# Altium integrated library Lattice FPGA EC.IntLib: 200 symbols (part 12 of 40)
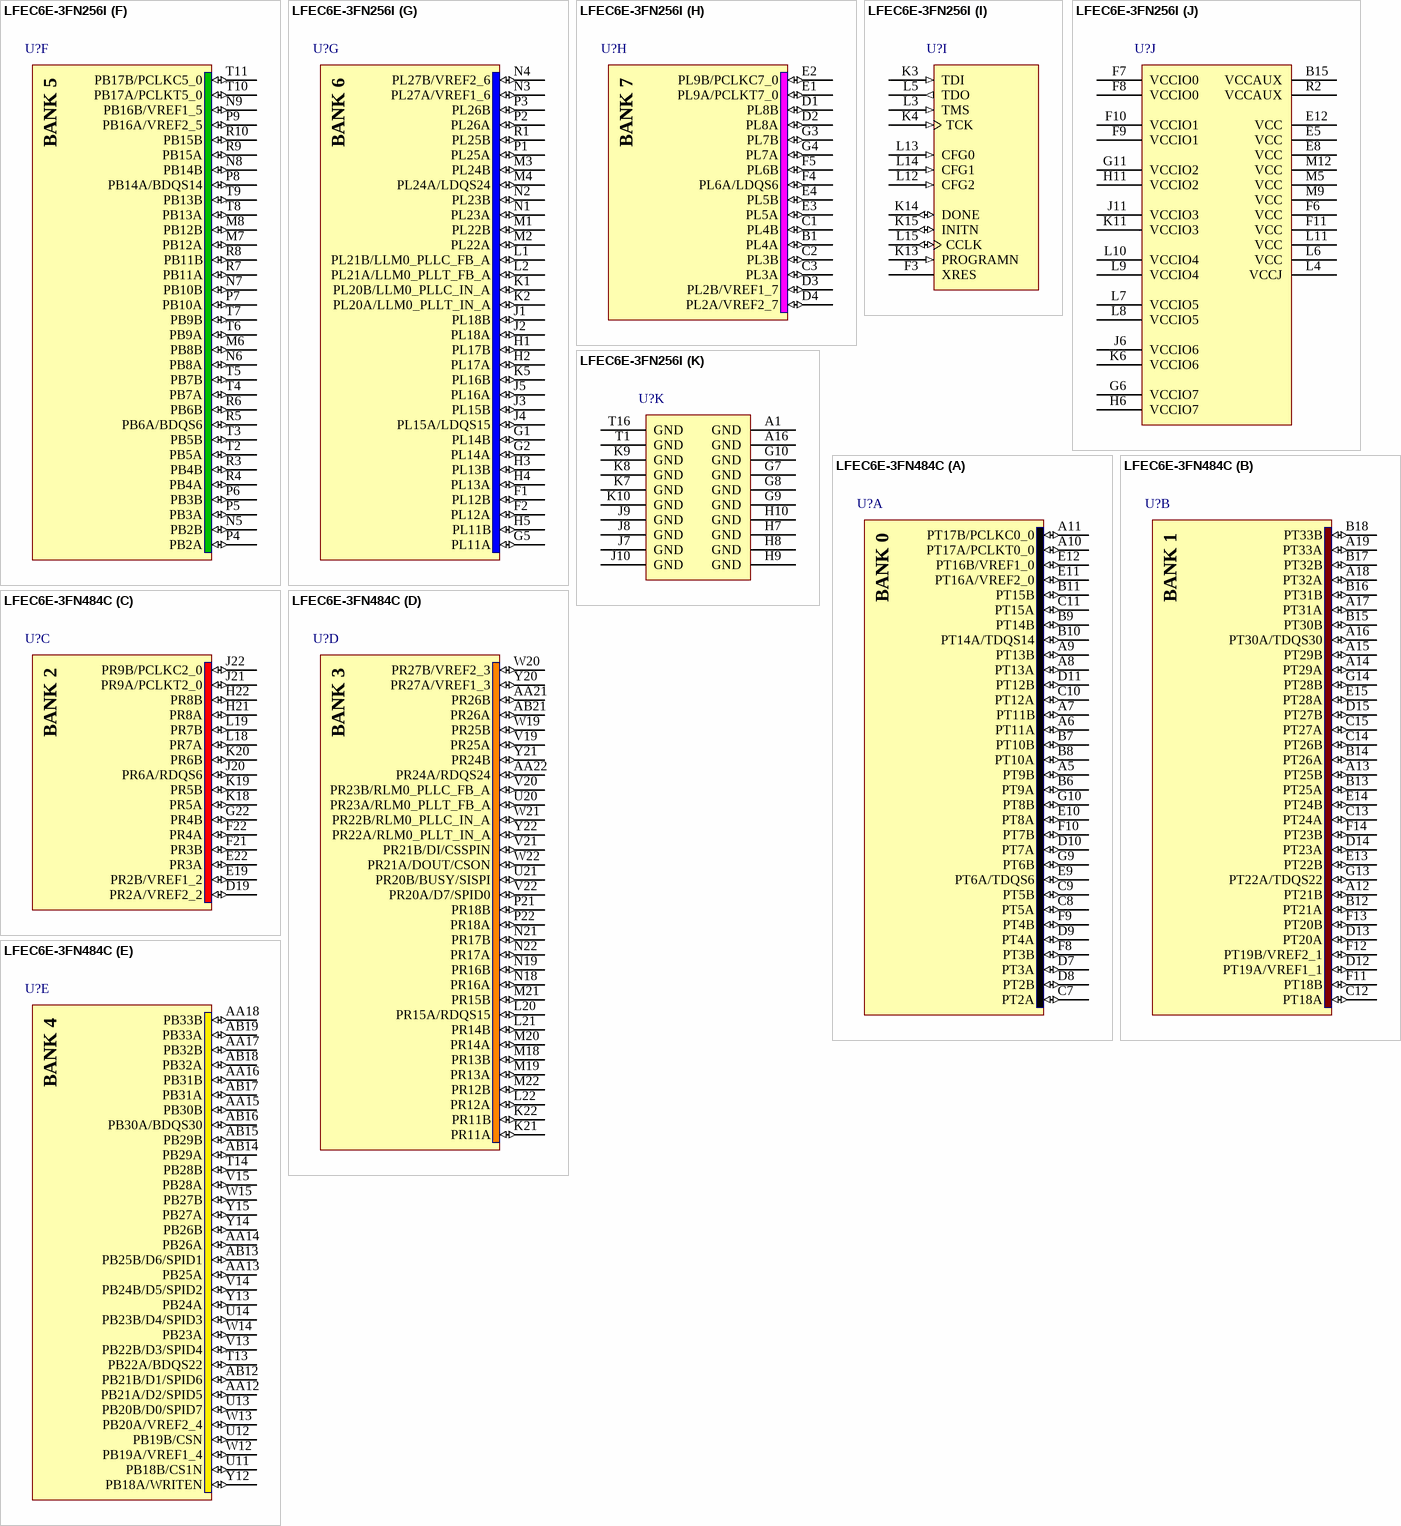
[diagram p284: symbols LFEC6E-3FN256I to LFEC6E-3FN484C]

## LFEC6E-3FN256I
designator U?
EC 1.2V FPGA, 195 I/Os, 2 PLLs, 6.1K LUTs, 256-Pin fpBGA, Pb-Free, Speed Grade 3, Industrial Temperature Grade; Published: 4-Mar-2005; LatestRevisionDate: 13-Apr-2006; LatestRevisionNote: IPC-7351 Footprint Added.; DatasheetVersion: ver2.2, Mar-2006; PackageVersion: pkg_33, Apr-2006; PackageReference: fpBGA256; Publisher: Altium Limited; PackageDescription: 256-Ball Fine Pitch Ball Grid Array (fpBGA256); Code_IPC: BGA100P16X16-256; ComponentLink1Description: Manufacturer Link; ComponentLink1URL: http://www.latticesemi.com/products/fpga/ecpec/index.cfm; ComponentLink2Description: Datasheet; ComponentLink2URL: http://www.latticesemi.com/lit/docs/datasheets/fpga/ecp_ec_datasheet.pdf; ComponentLink3Description: Packaging Specification; ComponentLink3URL: http://www.latticesemi.com/lit/docs/package/pkg.pdf; ComponentLink4Description: Lattice Login; ComponentLink4URL: http://www.latticesemi.com/account/login.cfm
footprint fpBGA256 (BGA, 256-Leads, Body 17x17mm, Pitch 1mm)
3D model EC6E-fpBGA256 (256-Ball Fine Pitch Ball Grid Array (fpBGA256))
part A pins: A2 PT5A (io), A3 PT5B (io), A4 PT6A/TDQS6 (io), A5 PT6B (io), A6 PT10A (io), A7 PT10B (io), A8 PT13A (io), A9 PT13B (io), A10 PT17B/PCLKC0_0 (io), B2 PT4B (io), B3 PT4A (io), B4 PT2A (io), B5 PT7A (io), B6 PT7B (io), B7 PT12A (io), B8 PT12B (io), B9 PT16A/VREF2_0 (io), B10 PT17A/PCLKT0_0 (io), C4 PT2B (io), C5 PT3A (io), C6 PT8A (io), C7 PT11A (io), C8 PT14A/TDQS14 (io), C9 PT16B/VREF1_0 (io), D5 PT3B (io), D6 PT8B (io), D7 PT11B (io), D8 PT14B (io), D9 PT15A (io), E6 PT9A (io), E7 PT9B (io), E9 PT15B (io)
part B pins: A11 PT18B (io), A12 PT19B/VREF2_1 (io), A13 PT21A (io), A14 PT21B (io), A15 PT24B (io), B11 PT18A (io), B12 PT19A/VREF1_1 (io), B13 PT26B (io), B14 PT24A (io), C10 PT20A (io), C11 PT23A (io), C12 PT25B (io), C13 PT26A (io), D10 PT20B (io), D11 PT23B (io), D12 PT25A (io), E10 PT22B (io), E11 PT22A/TDQS22 (io)
part C pins: B16 PR4A (io), C14 PR3A (io), C15 PR3B (io), C16 PR4B (io), D13 PR2A/VREF2_2 (io), D14 PR2B/VREF1_2 (io), D15 PR6A/RDQS6 (io), D16 PR6B (io), E13 PR7A (io), E14 PR5A (io), F12 PR7B (io), F13 PR8A (io), F14 PR5B (io), G12 PR9A/PCLKT2_0 (io), G13 PR8B (io), H12 PR9B/PCLKC2_0 (io)
part D pins: E15 PR11A (io), E16 PR11B (io), F15 PR14A (io), F16 PR14B (io), G14 PR12A (io), G15 PR17A (io), G16 PR17B (io), H13 PR13A (io), H14 PR12B (io), H15 PR18A (io), H16 PR18B (io), J12 PR16A (io), J13 PR13B (io), J14 PR15B (io), J15 PR15A/RDQS15 (io), J16 PR20A/D7/SPID0 (io), K12 PR16B (io), K16 PR20B/BUSY/SISPI (io), L16 PR21A/DOUT/CSON (io), M13 PR24B (io), M14 PR24A/RDQS24 (io), M15 PR22A/RLM0_PLLT_IN_A (io), M16 PR21B/DI/CSSPIN (io), N13 PR27B/VREF2_3 (io), N14 PR27A/VREF1_3 (io), N15 PR22B/RLM0_PLLC_IN_A (io), N16 PR23A/RLM0_PLLT_FB_A (io), P14 PR26B (io), P15 PR26A (io), P16 PR23B/RLM0_PLLC_FB_A (io), R15 PR25B (io), R16 PR25A (io)
part E pins: M10 PB21A/D2/SPID5 (io), M11 PB21B/D1/SPID6 (io), N10 PB19B/CSN (io), N11 PB25A (io), N12 PB25B/D6/SPID1 (io), P10 PB19A/VREF1_4 (io), P11 PB22B/D3/SPID4 (io), P12 PB24A (io), P13 PB24B/D5/SPID2 (io), R11 PB22A/BDQS22 (io), R12 PB26A (io), R13 PB23A (io), R14 PB23B/D4/SPID3 (io), T12 PB18A/WRITEN (io), T13 PB18B/CS1N (io), T14 PB20A/VREF2_4 (io), T15 PB20B/D0/SPID7 (io)
part F pins: M6 PB8B (io), M7 PB12A (io), M8 PB12B (io), N5 PB2B (io), N6 PB8A (io), N7 PB10B (io), N8 PB14B (io), N9 PB16B/VREF1_5 (io), P4 PB2A (io), P5 PB3A (io), P6 PB3B (io), P7 PB10A (io), P8 PB14A/BDQS14 (io), P9 PB16A/VREF2_5 (io), R3 PB4B (io), R4 PB4A (io), R5 PB6A/BDQS6 (io), R6 PB6B (io), R7 PB11A (io), R8 PB11B (io), R9 PB15A (io), R10 PB15B (io), T2 PB5A (io), T3 PB5B (io), T4 PB7A (io), T5 PB7B (io), T6 PB9A (io), T7 PB9B (io), T8 PB13A (io), T9 PB13B (io), T10 PB17A/PCLKT5_0 (io), T11 PB17B/PCLKC5_0 (io)
part G pins: F1 PL12B (io), F2 PL12A (io), G1 PL14B (io), G2 PL14A (io), G5 PL11A (io), H1 PL17B (io), H2 PL17A (io), H3 PL13B (io), H4 PL13A (io), H5 PL11B (io), J1 PL18B (io), J2 PL18A (io), J3 PL15B (io), J4 PL15A/LDQS15 (io), J5 PL16A (io), K1 PL20B/LLM0_PLLC_IN_A (io), K2 PL20A/LLM0_PLLT_IN_A (io), K5 PL16B (io), L1 PL21B/LLM0_PLLC_FB_A (io), L2 PL21A/LLM0_PLLT_FB_A (io), M1 PL22B (io), M2 PL22A (io), M3 PL24B (io), M4 PL24A/LDQS24 (io), N1 PL23A (io), N2 PL23B (io), N3 PL27A/VREF1_6 (io), N4 PL27B/VREF2_6 (io), P1 PL25A (io), P2 PL26A (io), P3 PL26B (io), R1 PL25B (io)
part H pins: B1 PL4A (io), C1 PL4B (io), C2 PL3B (io), C3 PL3A (io), D1 PL8B (io), D2 PL8A (io), D3 PL2B/VREF1_7 (io), D4 PL2A/VREF2_7 (io), E1 PL9A/PCLKT7_0 (io), E2 PL9B/PCLKC7_0 (io), E3 PL5A (io), E4 PL5B (io), F4 PL6A/LDQS6 (io), F5 PL6B (io), G3 PL7B (io), G4 PL7A (io)
part I pins: F3 XRES, K3 TDI (in), K4 TCK (in), K13 PROGRAMN (in), K14 DONE (io), K15 INITN (io), L3 TMS (in), L5 TDO (out), L12 CFG2 (in), L13 CFG0 (in), L14 CFG1 (in), L15 CCLK (io)
part J pins: B15 VCCAUX (power), E5 VCC (power), E8 VCC (power), E12 VCC (power), F6 VCC (power), F7 VCCIO0 (power), F8 VCCIO0 (power), F9 VCCIO1 (power), F10 VCCIO1 (power), F11 VCC (power), G6 VCCIO7 (power), G11 VCCIO2 (power), H6 VCCIO7 (power), H11 VCCIO2 (power), J6 VCCIO6 (power), J11 VCCIO3 (power), K6 VCCIO6 (power), K11 VCCIO3 (power), L4 VCCJ (power), L6 VCC (power), L7 VCCIO5 (power), L8 VCCIO5 (power), L9 VCCIO4 (power), L10 VCCIO4 (power), L11 VCC (power), M5 VCC (power), M9 VCC (power), M12 VCC (power), R2 VCCAUX (power)
part K pins: A1 GND (power), A16 GND (power), G7 GND (power), G8 GND (power), G9 GND (power), G10 GND (power), H7 GND (power), H8 GND (power), H9 GND (power), H10 GND (power), J7 GND (power), J8 GND (power), J9 GND (power), J10 GND (power), K7 GND (power), K8 GND (power), K9 GND (power), K10 GND (power), T1 GND (power), T16 GND (power)
part A text: BANK 0
part B text: BANK 1
part C text: BANK 2
part D text: BANK 3
part E text: BANK 4
part F text: BANK 5
part G text: BANK 6
part H text: BANK 7

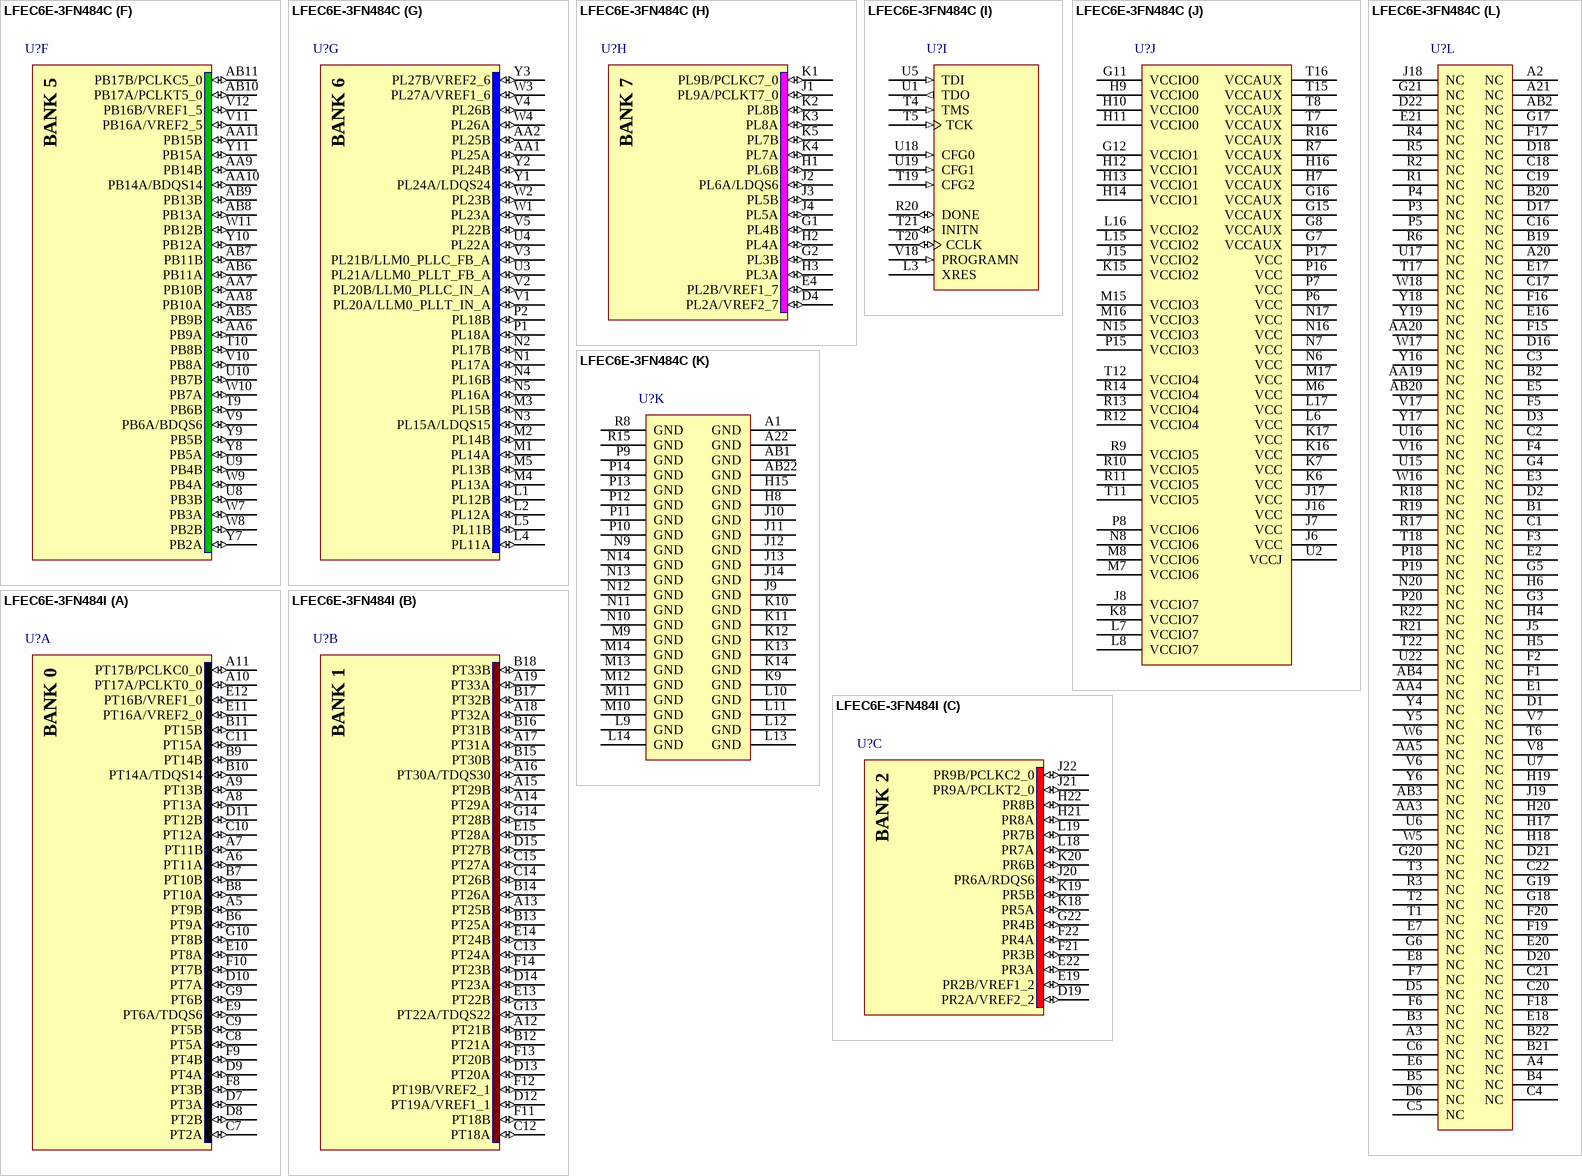
[diagram p46: symbols LFEC6E-3FN484C to LFEC6E-3FN484I]